# EAGLE library part MCP3912 (library SensorCape)
edit this description Auto generated by make-symbol-device-package-bsdl.ulp Rev. 43 Source:
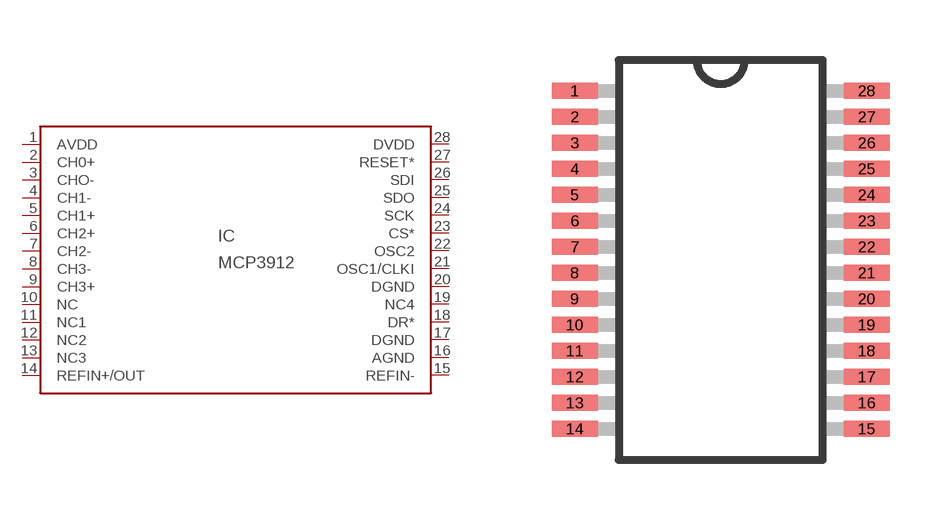
[diagram p26: symbol with the pads of SSOP28; footprint SSOP28]

Designator prefix IC

## MCP3912  [SSOP28]
1  AVDD
2  CH0+
3  CHO-
4  CH1-
5  CH1+
6  CH2+
7  CH2-
8  CH3-
9  CH3+
10  NC
11  NC1
12  NC2
13  NC3
14  REFIN+/OUT
15  REFIN-
16  AGND
17  DGND
18  DR*
19  NC4
20  DGND
21  OSC1/CLKI
22  OSC2
23  CS*
24  SCK
25  SDO
26  SDI
27  RESET*
28  DVDD

## Footprint SSOP28 (pad centres in mm)
SSOP28 Auto generated by make-symbol-device-package-bsdl.ulp Rev. 43
smd 1.154 x 0.4: 1 -3.65,4.225; 2 -3.65,3.575; 3 -3.65,2.925; 4 -3.65,2.275; 5 -3.65,1.625; 6 -3.65,0.975; 7 -3.65,0.325; 8 -3.65,-0.325; 9 -3.65,-0.975; 10 -3.65,-1.625; 11 -3.65,-2.275; 12 -3.65,-2.925; 13 -3.65,-3.575; 14 -3.65,-4.225; 15 3.65,-4.225; 16 3.65,-3.575; 17 3.65,-2.925; 18 3.65,-2.275; 19 3.65,-1.625; 20 3.65,-0.975; 21 3.65,-0.325; 22 3.65,0.325; 23 3.65,0.975; 24 3.65,1.625; 25 3.65,2.275; 26 3.65,2.925; 27 3.65,3.575; 28 3.65,4.225